# Altium schematic symbol library CGA2B3X7R1E104K050BB.SchLib: 1 symbol
Pins are listed as number, name and electrical type; pins without a type are passive.

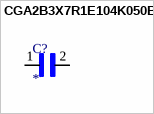
[diagram p0: symbol CGA2B3X7R1E104K050BB]

## CGA2B3X7R1E104K050BB
designator C?
0.1 ÂµF Â±10% 25V Ceramic Capacitor X7R 0402 (1005 Metric); MF: {'manufacturer': u'TDK Electronics'}; MP: CGA2B3X7R1E104K050BB; Price: None; Availability: Unavailable; Package: None; Value: *
footprint CAPC1005X55N
pins: 1, 2